# Altium footprint library MCU127_M2-CC3351_RevA.PcbLib: 29 footprints (part 2 of 2)
Each footprint in its own frame and in the unit in brackets; x right, y up, seen from the top. Pads: shape width x height; smd on the part's side, far side on the other; paste and mask are expansions set on the pad; w line width, h text height; cw(c..) or ccw(c..) is an arc to the next point about the centre after c.
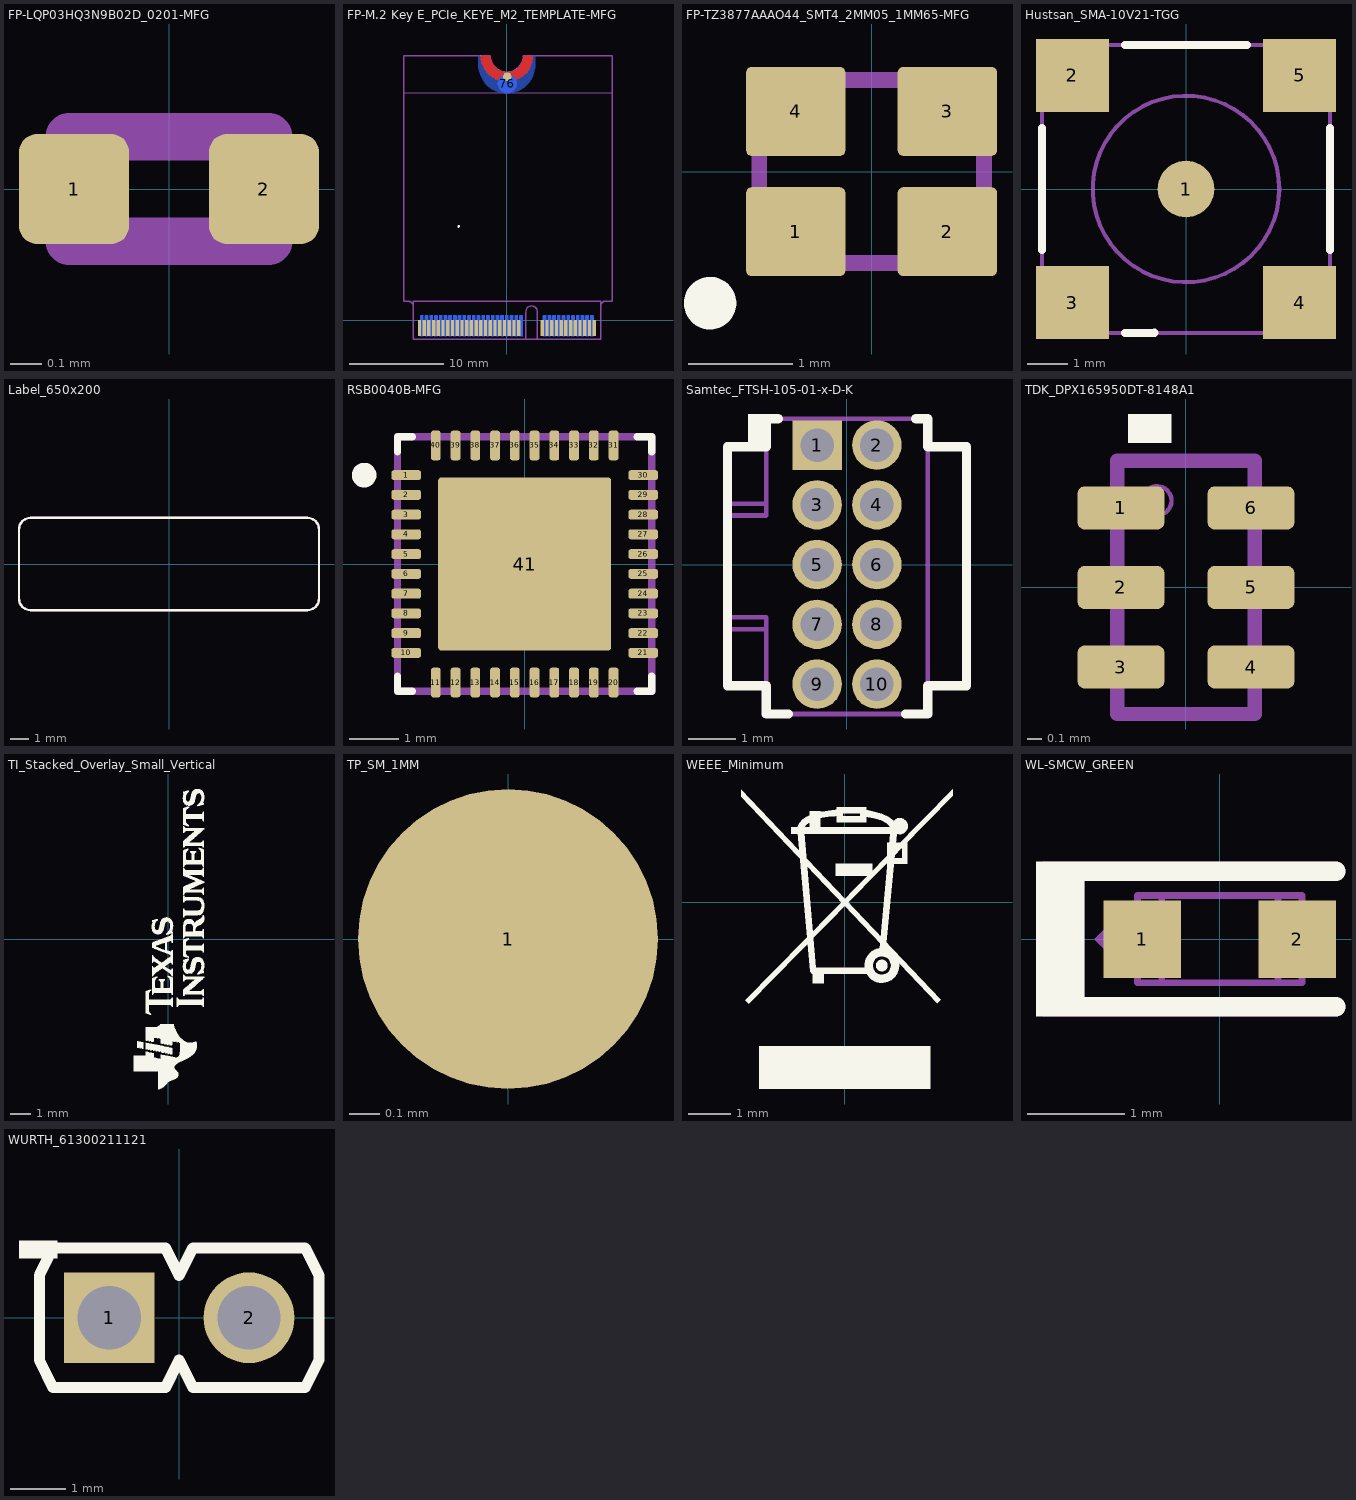
[diagram p1: the footprints below, top view; thin cyan lines are the x and y axes]

## FP-LQP03HQ3N9B02D_0201-MFG [mm]
pads (2):
  rrect33% 0.348x0.348 smd paste+0 mask+0: 1(-0.3,0) 2(0.3,0)
Mechanical 5:
  lines w0.15: -0.315,-0.165 0.315,-0.165 0.315,0.165 -0.315,0.165 -0.315,-0.165
  text ".Designator" at 0.755,0.656 h0.5
3D body "Ind_LQP03HQ3N9B02D_0201.STEP": height 0.25, standoff 0, extent -0.55,-0.265 0.55,0.265

## FP-M.2 Key E_PCIe_KEYE_M2_TEMPLATE-MFG [mm]
pads (69):
  rrect29% 0.35x1.7 smd paste-1000 mask-1000: 1(9.25,-0.85) 3(8.75,-0.85) 5(8.25,-0.85) 7(7.75,-0.85) 9(7.25,-0.85) 11(6.75,-0.85) 13(6.25,-0.85) 15(5.75,-0.85) 17(5.25,-0.85) 19(4.75,-0.85) 21(4.25,-0.85) 23(3.75,-0.85) 33(1.25,-0.85) 35(0.75,-0.85) 37(0.25,-0.85) 39(-0.25,-0.85) 41(-0.75,-0.85) 43(-1.25,-0.85) 45(-1.75,-0.85) 47(-2.25,-0.85) 49(-2.75,-0.85) 51(-3.25,-0.85) 53(-3.75,-0.85) 55(-4.25,-0.85) 57(-4.75,-0.85) 59(-5.25,-0.85) 61(-5.75,-0.85) 63(-6.25,-0.85) 65(-6.75,-0.85) 67(-7.25,-0.85) 69(-7.75,-0.85) 71(-8.25,-0.85) 73(-8.75,-0.85) 75(-9.25,-0.85)
  rrect29% 0.35x2.2 smd far side paste-1000 mask-1000: 2(9,-0.6) 4(8.5,-0.6) 6(8,-0.6) 8(7.5,-0.6) 10(7,-0.6) 12(6.5,-0.6) 14(6,-0.6) 16(5.5,-0.6) 18(5,-0.6) 20(4.5,-0.6) 22(4,-0.6) 32(1.5,-0.6) 34(1,-0.6) 36(0.5,-0.6) 38(0,-0.6) 40(-0.5,-0.6) 42(-1,-0.6) 44(-1.5,-0.6) 46(-2,-0.6) 48(-2.5,-0.6) 50(-3,-0.6) 52(-3.5,-0.6) 54(-4,-0.6) 56(-4.5,-0.6) 58(-5,-0.6) 60(-5.5,-0.6) 62(-6,-0.6) 64(-6.5,-0.6) 66(-7,-0.6) 68(-7.5,-0.6) 70(-8,-0.6) 72(-8.5,-0.6) 74(-9,-0.6)
  round 2.001 smd far side paste-1000 mask+0: 76(0.05,25.039)
  round 0.893 smd paste-1000 mask+0: 76(0.05,25.769)
Top Layer:
  region: -1.75,27.994 -2.75,27.994 -2.75,27.777 -2.682,27.35 -2.549,26.938 -2.352,26.552 -2.098,26.202 -1.792,25.896 -1.441,25.642 -1.056,25.445 -0.644,25.311 -0.216,25.244 0.216,25.244 0.644,25.311 1.056,25.445 1.441,25.642 1.792,25.896 2.098,26.202 2.352,26.552 2.549,26.938 2.682,27.35 2.75,27.777 2.75,27.994 1.75,27.994 1.742,27.822 1.675,27.486 1.543,27.169 1.353,26.884 1.11,26.641 0.825,26.45 0.508,26.319 0.172,26.252 -0.172,26.252 -0.508,26.319 -0.825,26.45 -1.11,26.641 -1.353,26.884 -1.543,27.169 -1.675,27.486 -1.742,27.822
Bottom Layer:
  region: -1.75,27.994 -3,27.994 -3,26.994 -3,26.758 -2.926,26.291 -2.78,25.842 -2.566,25.421 -2.288,25.039 -1.954,24.705 -1.572,24.428 -1.152,24.213 -0.703,24.068 -0.236,23.994 0.236,23.994 0.703,24.068 1.152,24.213 1.572,24.428 1.954,24.705 2.288,25.039 2.566,25.421 2.78,25.842 2.926,26.291 3,26.758 3,26.994 3,27.994 1.75,27.994 1.742,27.822 1.675,27.486 1.543,27.169 1.353,26.884 1.11,26.641 0.825,26.45 0.508,26.319 0.172,26.252 -0.172,26.252 -0.508,26.319 -0.825,26.45 -1.11,26.641 -1.353,26.884 -1.543,27.169 -1.675,27.486 -1.742,27.822
Top Overlay:
  circle w0.152: c-5.105,9.914 r0.064
Top Solder:
  rectangle: -9.925,-2 9.925,0
Bottom Solder:
  rectangle: -9.925,-2 9.925,0.5
Mechanical 1:
  lines w0.15: -10.91,2 -10.91,28 -1.75,28 ccw(c0,28.002) 1.75,28 11.16,28 11.16,2 10.425,2 ccw(c10.425,1.5) 9.925,1.5 9.925,-2 3.225,-2 3.225,0.9 ccw(c2.625,0.898) 2.025,0.9 2.025,-2 -9.925,-2 -9.925,1.5 ccw(c-10.425,1.5) -10.425,2 -10.91,2
Mechanical 5:
  lines w0.15: -10.91,24.068 11.172,24.031 ; -9.925,-2 -9.925,2 9.925,2 9.925,-2 -9.925,-2
  text ".Designator" at 0.05,19.217 h0.5

## FP-TZ3877AAAO44_SMT4_2MM05_1MM65-MFG [mm]
pads (4):
  rrect12% 0.95x0.85 smd paste+0 mask+0: 1(-0.725,-0.575) 2(0.725,-0.575) 3(0.725,0.575) 4(-0.725,0.575)
Top Overlay:
  circle w0.251: c-1.544,-1.259 r0.125
Mechanical 5:
  lines w0.15: -1.075,-0.875 -1.075,0.875 1.075,0.875 1.075,-0.875 -1.075,-0.875
  text ".Designator" at 0.05,0.217 h0.5
3D body "Crys_TZ3877AAAO44_SMT4_2MM05_1MM65.STEP": height 0.25, standoff 0, extent -1.3,-1.1 1.3,1.1

## Hustsan_SMA-10V21-TGG [mm]
pads (5):
  round 1.4 smd: 1(0,0)
  rect 1.8x1.8 smd: 2(-2.8,2.8) 3(-2.8,-2.8) 4(2.8,-2.8) 5(2.8,2.8)
Top Overlay:
  lines w0.2: -3.55,-1.5 -3.55,1.5 ; -1.5,-3.55 -0.779,-3.547 ; -1.5,3.55 1.5,3.55 ; 3.55,-1.5 3.55,1.5
Mechanical 5:
  circle w0.1: c0,0 r2.3
  circle w0.1: c0,0 r0.2
  lines w0.1: -3.55,-2 -2,-2 -2,-3.55 ; -3.55,2 -2,2 -2,3.55 ; 2,-3.55 2,-2 3.55,-2 ; 2,3.55 2,2 3.55,2 ; -3.55,-3.55 3.55,-3.55 3.55,3.55 -3.55,3.55 -3.55,-3.55
  text ".Designator" at -1,-0.3 h0.6
3D body: height 10.7, standoff 2.8, extent -2.679,-2.695 2.7,2.695
3D body: height 2.8, standoff 0, extent -3.55,-3.55 -2,-2
3D body: height 2.8, standoff 0, extent 2,-3.55 3.55,-2
3D body: height 2.8, standoff 0, extent 2,2 3.55,3.55
3D body: height 2.8, standoff 0, extent -3.55,2 -2,3.55
3D body: height 2.8, standoff 1, extent -3.55,-3.55 3.55,3.55
3D body: height 1, standoff 0, extent -0.57,-0.574 0.575,0.574
3D body: height 9.8, standoff 4.5, extent -3.162,-3.2 3.162,3.137
3D body: height 10.71, standoff 10.7, extent -2.299,-2.299 2.299,2.299
3D body: height 10.72, standoff 10.7, extent -0.199,-0.199 0.199,0.199

## Label_650x200 [mil]
pads (1):
  round 1 on Mech14: 0(0,0)
Top Overlay:
  lines w5: -325,-75 ccw(c-300,-75) -300,-100 300,-100 ccw(c300,-75) 325,-75 325,75 ccw(c300,75) 300,100 -300,100 ccw(c-300,75) -325,75 -325,-75
Mechanical 6:
  lines w5: -325,-75 ccw(c-300,-75) -300,-100 300,-100 ccw(c300,-75) 325,-75 325,75 ccw(c300,75) 300,100 -300,100 ccw(c-300,75) -325,75 -325,-75
  text ".Designator" at -60,-20 h40
3D body: height 1, standoff 0, extent -325.02,-100.02 325.02,100.02

## RSB0040B-MFG [mm]
pads (41):
  rrect50% 0.6x0.2 smd paste+0 mask+0: 1(-2.4,1.8) 2(-2.4,1.4) 3(-2.4,1) 4(-2.4,0.6) 5(-2.4,0.2) 6(-2.4,-0.2) 7(-2.4,-0.6) 8(-2.4,-1) 9(-2.4,-1.4) 10(-2.4,-1.8) 21(2.4,-1.8) 22(2.4,-1.4) 23(2.4,-1) 24(2.4,-0.6) 25(2.4,-0.2) 26(2.4,0.2) 27(2.4,0.6) 28(2.4,1) 29(2.4,1.4) 30(2.4,1.8)
  rrect50% 0.2x0.6 smd paste+0 mask+0: 11(-1.8,-2.4) 12(-1.4,-2.4) 13(-1,-2.4) 14(-0.6,-2.4) 15(-0.2,-2.4) 16(0.2,-2.4) 17(0.6,-2.4) 18(1,-2.4) 19(1.4,-2.4) 20(1.8,-2.4) 31(1.8,2.4) 32(1.4,2.4) 33(1,2.4) 34(0.6,2.4) 35(0.2,2.4) 36(-0.2,2.4) 37(-0.6,2.4) 38(-1,2.4) 39(-1.4,2.4) 40(-1.8,2.4)
  rrect3% 3.5x3.5 smd paste-1000 mask+0: 41(0,0)
Top Overlay:
  circle w0.25: c-3.25,1.8 r0.125
  lines w0.15: -2.575,-2.275 -2.575,-2.575 -2.275,-2.575 ; -2.575,2.275 -2.575,2.575 -2.275,2.575 ; 2.275,-2.575 2.575,-2.575 2.575,-2.275 ; 2.275,2.575 2.575,2.575 2.575,2.275
Top Paste:
  drawing of 9 lines, arcs and shapes, not listed
Mechanical 5:
  lines w0.15: -2.575,-2.575 2.575,-2.575 2.575,2.575 -2.575,2.575 -2.575,-2.575
  text ".Designator" at 0,0 h0.5
3D body "IC_CC3301NG0ARSBR_WQFN40.STEP": height 0.25, standoff 0, extent -2.8,-2.8 2.8,2.8

## Samtec_FTSH-105-01-x-D-K [mm]
pads (10):
  rect 1.05x1.05 hole 0.71: 1(-0.635,2.54)
  round 1.05 hole 0.71: 2(0.635,2.54) 3(-0.635,1.27) 4(0.635,1.27) 5(-0.635,0) 6(0.635,0) 7(-0.635,-1.27) 8(0.635,-1.27) 9(-0.635,-2.54) 10(0.635,-2.54)
Top Overlay:
  rectangle: -2.1,2.502 -1.7,3.2
  lines w0.2: -1.458,3.099 -1.714,3.099 -1.715,2.502 -2.54,2.502 -2.54,-2.578 -1.715,-2.578 -1.714,-3.175 -1.244,-3.175 ; 1.244,-3.175 1.714,-3.175 1.715,-2.578 2.54,-2.578 2.54,2.502 1.715,2.502 1.715,3.099 1.458,3.099
Mechanical 5:
  lines w0.1: -2.54,-1.372 -2.54,-1.118 ; -2.54,-1.372 -1.714,-1.372 ; -2.54,-1.372 -2.54,-2.578 -1.715,-2.578 ; -2.54,-1.118 -2.54,1.041 ; -2.54,-1.118 -1.714,-1.118 -1.714,-1.372 ; -2.54,1.041 -2.54,1.295 ; -2.54,1.041 -1.714,1.041 -1.714,1.295 ; -2.54,1.295 -2.54,2.502 -1.715,2.502 ; -2.54,1.295 -1.714,1.295 ; -1.715,-2.578 -1.714,-1.372 ; -1.715,-2.578 -1.714,-3.175 1.715,-3.175 1.715,-2.578 ; -1.714,1.295 -1.715,2.502 ; -1.715,2.502 -1.714,3.099 1.715,3.099 1.715,2.502 ; 1.715,-2.578 2.54,-2.578 2.54,2.502 1.715,2.502 ; 1.715,-2.578 1.715,2.502
  text ".Designator" at -1.85,-0.3 h0.8
3D body "Samtec-FTSH-105-01-F-D-K.stp": height 5.73, standoff -2.27, extent -2.54,-3.175 2.54,3.099

## TDK_DPX165950DT-8148A1 [mm]
pads (6):
  rrect33% 0.6x0.3 smd: 1(-0.45,0.55) 2(-0.45,0) 3(-0.45,-0.55) 4(0.45,-0.55) 5(0.45,0) 6(0.45,0.55)
Top Overlay:
  rectangle: -0.401,1 -0.101,1.2
Mechanical 5:
  circle w0.03: c-0.2,0.6 r0.1
  lines w0.1: -0.475,-0.875 -0.475,0.875 0.475,0.875 0.475,-0.875 -0.475,-0.875
  text ".Designator" at -0.2,-0.1 h0.3
3D body: height 0.7, standoff 0, extent -0.475,-0.875 0.475,0.875
3D body: height 0.7, standoff 0.7, extent -0.299,0.501 -0.101,0.699

## TI_Stacked_Overlay_Small_Vertical [mm]
Top Overlay:
  drawing of 18 lines, arcs and shapes, not listed

## TP_SM_1MM [mm]
pads (1):
  round 1 smd paste-0.5: 1(0,0)

## WEEE_Minimum [mm]
Top Overlay:
  drawing of 23 lines, arcs and shapes, not listed

## WL-SMCW_GREEN [mm]
pads (2):
  rect 0.8x0.8 smd: 1(-0.8,0) 2(0.8,0)
Top Overlay:
  rectangle: -1.9,-0.799 -1.4,0.801
  lines w0.2: -1.6,-0.7 1.2,-0.7 ; -1.6,0.7 1.2,0.7
Mechanical 5:
  region: -0.9,-0.4 -0.9,0.4 -1.3,0
  lines w0.2: -1.65,-0.7 -1.65,0.55 ; 1.2,-0.7 -1.5,-0.7 ; 1.2,0.7 -1.5,0.7 ; -1.5,-0.7 -1.8,-0.7 -1.8,0.7 -1.5,0.7 ; -1.5,-0.7 -1.5,0.7
  text ".Designator" at -0.8,-0.3 h0.45
Mechanical 13:
  lines w0.07: -0.6,-0.45 -0.6,0.45 ; 0.6,-0.45 0.6,0.45 ; -0.85,-0.45 0.85,-0.45 0.85,0.45 -0.85,0.45 -0.85,-0.45
3D body: height 0.8, standoff 0.35, extent -0.599,-0.449 0.599,0.449
3D body: height 0.35, standoff 0, extent 0.601,-0.449 0.849,0.449
3D body: height 0.35, standoff 0, extent -0.599,-0.449 0.599,0.449
3D body: height 0.35, standoff 0, extent -0.849,-0.449 -0.601,0.449

## WURTH_61300211121 [mm]
pads (2):
  rect 1.65x1.65 hole 1.15: 1(-1.27,0)
  round 1.65 hole 1.15: 2(1.27,0)
Top Overlay:
  rectangle: -2.909,1.076 -2.209,1.406
  lines w0.2: -2.54,-0.77 -2.29,-1.27 -0.25,-1.27 0,-0.77 0.25,-1.27 2.29,-1.27 2.54,-0.77 2.54,0.77 2.29,1.27 0.25,1.27 0,0.77 -0.25,1.27 -2.29,1.27 -2.54,0.77 -2.54,-0.77
Mechanical 5:
  lines w0.1: -2.54,-0.77 -2.54,0.77 -2.29,1.27 -0.25,1.27 0,0.77 0.25,1.27 2.29,1.27 2.54,0.77 2.54,-0.77 2.29,-1.27 0.25,-1.27 0,-0.77 -0.25,-1.27 -2.29,-1.27 -2.54,-0.77
  text ".Designator" at -1.524,-0.508 h1.02
3D body "61300211121.stp": height 8.54, standoff -3, extent -2.54,-1.27 2.54,1.27